# Altium footprint library Capacitor_Tantalum_SMD.PcbLib: 28 footprints (part 2 of 2)
Each footprint in its own frame and in the unit in brackets; x right, y up, seen from the top. Pads: shape width x height; smd on the part's side, far side on the other; paste and mask are expansions set on the pad; w line width, h text height; cw(c..) or ccw(c..) is an arc to the next point about the centre after c.
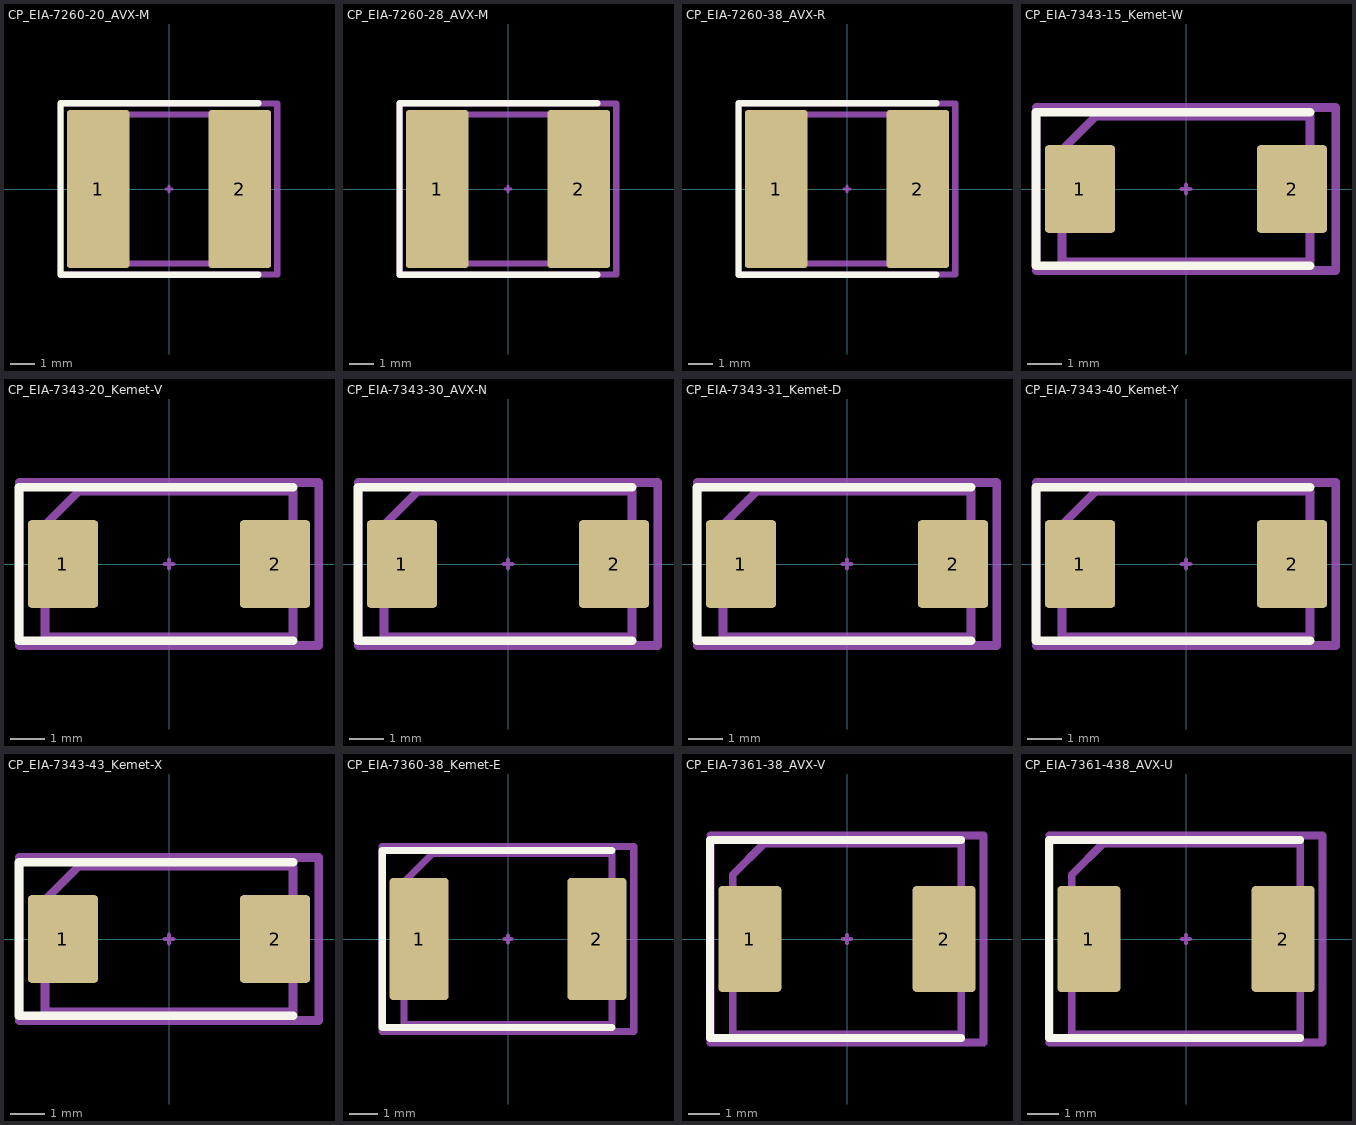
[diagram p1: the footprints below, top view; thin cyan lines are the x and y axes]

## CP_EIA-7260-20_AVX-M [mm] "CP_EIA-7260-20_AVX-M"
pads (2):
  rrect10% 2.51x6.37 smd: 1(-2.85,0) 2(2.85,0)
F.SilkS:
  lines w0.254: 3.6,-3.445 -4.365,-3.445 -4.365,3.445 3.6,3.445
Top Component Center:
  lines w0.127: -0.127,0 0.127,0 ; 0,-0.127 0,0.127
Top Assembly:
  lines w0.254: -3.6,-3 -3.6,2 -2.6,3 3.6,3 3.6,-3 -3.6,-3
Top Courtyard:
  lines w0.254: -4.36,-3.44 -4.36,3.44 4.36,3.44 4.36,-3.44 -4.36,-3.44
Top Designator:
  text ".Designator" at -3.434,-0.345 h1.52

## CP_EIA-7260-28_AVX-M [mm] "CP_EIA-7260-28_AVX-M"
pads (2):
  rrect10% 2.51x6.37 smd: 1(-2.85,0) 2(2.85,0)
F.SilkS:
  lines w0.254: 3.6,-3.445 -4.365,-3.445 -4.365,3.445 3.6,3.445
Top Component Center:
  lines w0.127: -0.127,0 0.127,0 ; 0,-0.127 0,0.127
Top Assembly:
  lines w0.254: -3.6,-3 3.6,-3 3.6,3 -2.6,3 -3.6,2 -3.6,-3
Top Courtyard:
  lines w0.254: -4.36,-3.44 4.36,-3.44 4.36,3.44 -4.36,3.44 -4.36,-3.44
Top Designator:
  text ".Designator" at -3.434,-0.345 h1.52

## CP_EIA-7260-38_AVX-R [mm] "CP_EIA-7260-38_AVX-R"
pads (2):
  rrect10% 2.51x6.37 smd: 1(-2.85,0) 2(2.85,0)
F.SilkS:
  lines w0.254: 3.6,-3.445 -4.365,-3.445 -4.365,3.445 3.6,3.445
Top Component Center:
  lines w0.127: -0.127,0 0.127,0 ; 0,-0.127 0,0.127
Top Assembly:
  lines w0.254: -3.6,-3 3.6,-3 3.6,3 -2.6,3 -3.6,2 -3.6,-3
Top Courtyard:
  lines w0.254: -4.36,-3.44 4.36,-3.44 4.36,3.44 -4.36,3.44 -4.36,-3.44
Top Designator:
  text ".Designator" at -3.434,-0.345 h1.52

## CP_EIA-7343-15_Kemet-W [mm] "CP_EIA-7343-15_Kemet-W"
pads (2):
  rrect12% 2.07x2.59 smd: 1(-3.12,0) 2(3.12,0)
F.SilkS:
  lines w0.254: 3.65,-2.26 -4.415,-2.26 -4.415,2.26 3.65,2.26
Top Component Center:
  lines w0.127: -0.127,0 0.127,0 ; 0,-0.127 0,0.127
Top Assembly:
  lines w0.254: -3.65,-2.15 3.65,-2.15 3.65,2.15 -2.65,2.15 -3.65,1.15 -3.65,-2.15
Top Courtyard:
  lines w0.254: -4.41,-2.4 4.41,-2.4 4.41,2.4 -4.41,2.4 -4.41,-2.4
Top Designator:
  text ".Designator" at -3.434,-0.345 h1.52
3D body "CP_EIA-7343-15_Kemet-W.step": height 1.5, standoff 0, extent -3.65,-2.15 3.65,2.15

## CP_EIA-7343-20_Kemet-V [mm] "CP_EIA-7343-20_Kemet-V"
pads (2):
  rrect12% 2.07x2.59 smd: 1(-3.12,0) 2(3.12,0)
F.SilkS:
  lines w0.254: 3.65,-2.26 -4.415,-2.26 -4.415,2.26 3.65,2.26
Top Component Center:
  lines w0.127: -0.127,0 0.127,0 ; 0,-0.127 0,0.127
Top Assembly:
  lines w0.254: -3.65,-2.15 -3.65,1.15 -2.65,2.15 3.65,2.15 3.65,-2.15 -3.65,-2.15
Top Courtyard:
  lines w0.254: -4.41,-2.4 -4.41,2.4 4.41,2.4 4.41,-2.4 -4.41,-2.4
Top Designator:
  text ".Designator" at -3.434,-0.345 h1.52
3D body "CP_EIA-7343-20_Kemet-V.step": height 2, standoff 0, extent -3.75,-2.3 3.75,2.3

## CP_EIA-7343-30_AVX-N [mm] "CP_EIA-7343-30_AVX-N"
pads (2):
  rrect12% 2.07x2.59 smd: 1(-3.12,0) 2(3.12,0)
F.SilkS:
  lines w0.254: 3.65,-2.26 -4.415,-2.26 -4.415,2.26 3.65,2.26
Top Component Center:
  lines w0.127: -0.127,0 0.127,0 ; 0,-0.127 0,0.127
Top Assembly:
  lines w0.254: -3.65,-2.15 -3.65,1.15 -2.65,2.15 3.65,2.15 3.65,-2.15 -3.65,-2.15
Top Courtyard:
  lines w0.254: -4.41,-2.4 -4.41,2.4 4.41,2.4 4.41,-2.4 -4.41,-2.4
Top Designator:
  text ".Designator" at -3.434,-0.345 h1.52
3D body "CP_EIA-7343-30_AVX-N.step": height 2.8, standoff 0, extent -3.65,-2.15 3.65,2.15

## CP_EIA-7343-31_Kemet-D [mm] "CP_EIA-7343-31_Kemet-D"
pads (2):
  rrect12% 2.07x2.59 smd: 1(-3.12,0) 2(3.12,0)
F.SilkS:
  lines w0.254: 3.65,-2.26 -4.415,-2.26 -4.415,2.26 3.65,2.26
Top Component Center:
  lines w0.127: -0.127,0 0.127,0 ; 0,-0.127 0,0.127
Top Assembly:
  lines w0.254: -3.65,-2.15 3.65,-2.15 3.65,2.15 -2.65,2.15 -3.65,1.15 -3.65,-2.15
Top Courtyard:
  lines w0.254: -4.41,-2.4 4.41,-2.4 4.41,2.4 -4.41,2.4 -4.41,-2.4
Top Designator:
  text ".Designator" at -3.434,-0.345 h1.52
3D body "CP_EIA-7343-31_Kemet-D.step": height 3.1, standoff 0, extent -3.65,-2.15 3.65,2.15

## CP_EIA-7343-40_Kemet-Y [mm] "CP_EIA-7343-40_Kemet-Y"
pads (2):
  rrect12% 2.07x2.59 smd: 1(-3.12,0) 2(3.12,0)
F.SilkS:
  lines w0.254: 3.65,-2.26 -4.415,-2.26 -4.415,2.26 3.65,2.26
Top Component Center:
  lines w0.127: -0.127,0 0.127,0 ; 0,-0.127 0,0.127
Top Assembly:
  lines w0.254: -3.65,-2.15 -3.65,1.15 -2.65,2.15 3.65,2.15 3.65,-2.15 -3.65,-2.15
Top Courtyard:
  lines w0.254: -4.41,-2.4 -4.41,2.4 4.41,2.4 4.41,-2.4 -4.41,-2.4
Top Designator:
  text ".Designator" at -3.434,-0.345 h1.52
3D body "CP_EIA-7343-40_Kemet-Y.step": height 3.8, standoff 0, extent -3.65,-2.15 3.65,2.15

## CP_EIA-7343-43_Kemet-X [mm] "CP_EIA-7343-43_Kemet-X"
pads (2):
  rrect12% 2.07x2.59 smd: 1(-3.12,0) 2(3.12,0)
F.SilkS:
  lines w0.254: 3.65,-2.26 -4.415,-2.26 -4.415,2.26 3.65,2.26
Top Component Center:
  lines w0.127: -0.127,0 0.127,0 ; 0,-0.127 0,0.127
Top Assembly:
  lines w0.254: -3.65,-2.15 3.65,-2.15 3.65,2.15 -2.65,2.15 -3.65,1.15 -3.65,-2.15
Top Courtyard:
  lines w0.254: -4.41,-2.4 4.41,-2.4 4.41,2.4 -4.41,2.4 -4.41,-2.4
Top Designator:
  text ".Designator" at -3.434,-0.345 h1.52
3D body "CP_EIA-7343-30_AVX-N.step": height 2.8, standoff 0, extent -3.65,-2.15 3.65,2.15

## CP_EIA-7360-38_Kemet-E [mm] "CP_EIA-7360-38_Kemet-E"
pads (2):
  rrect12% 2.07x4.29 smd: 1(-3.12,0) 2(3.12,0)
F.SilkS:
  lines w0.254: 3.65,-3.11 -4.415,-3.11 -4.415,3.11 3.65,3.11
Top Component Center:
  lines w0.127: -0.127,0 0.127,0 ; 0,-0.127 0,0.127
Top Assembly:
  lines w0.254: -3.65,-3 -3.65,2 -2.65,3 3.65,3 3.65,-3 -3.65,-3
Top Courtyard:
  lines w0.254: -4.41,-3.25 -4.41,3.25 4.41,3.25 4.41,-3.25 -4.41,-3.25
Top Designator:
  text ".Designator" at -3.437,-0.345 h1.52
3D body "CP_EIA-7360-38_Kemet-E.step": height 3.8, standoff 0, extent -3.8,-3.15 3.8,3.15

## CP_EIA-7361-38_AVX-V [mm] "CP_EIA-7361-38_AVX-V"
pads (2):
  rrect12% 2.015x3.38 smd: 1(-3.103,0) 2(3.103,0)
F.SilkS:
  lines w0.254: 3.65,-3.16 -4.37,-3.16 -4.37,3.16 3.65,3.16
Top Component Center:
  lines w0.127: -0.127,0 0.127,0 ; 0,-0.127 0,0.127
Top Assembly:
  lines w0.254: -3.65,-3.05 -3.65,2.05 -2.65,3.05 3.65,3.05 3.65,-3.05 -3.65,-3.05
Top Courtyard:
  lines w0.254: -4.36,-3.3 -4.36,3.3 4.36,3.3 4.36,-3.3 -4.36,-3.3
Top Designator:
  text ".Designator" at -3.434,-0.345 h1.52
3D body "CP_EIA-7361-38_AVX-V.step": height 3.55, standoff 0, extent -3.65,-3.05 3.65,3.05

## CP_EIA-7361-438_AVX-U [mm] "CP_EIA-7361-438_AVX-U"
pads (2):
  rrect12% 2.015x3.38 smd: 1(-3.103,0) 2(3.103,0)
F.SilkS:
  lines w0.254: 3.65,-3.16 -4.37,-3.16 -4.37,3.16 3.65,3.16
Top Component Center:
  lines w0.127: -0.127,0 0.127,0 ; 0,-0.127 0,0.127
Top Assembly:
  lines w0.254: -3.65,-3.05 -3.65,2.05 -2.65,3.05 3.65,3.05 3.65,-3.05 -3.65,-3.05
Top Courtyard:
  lines w0.254: -4.36,-3.3 -4.36,3.3 4.36,3.3 4.36,-3.3 -4.36,-3.3
Top Designator:
  text ".Designator" at -3.439,-0.345 h1.52
3D body "CP_EIA-7361-438_AVX-U.step": height 4.1, standoff 0, extent -3.65,-3.05 3.65,3.05
3D body "CP_EIA-7361-438_AVX-U.step": height 4.1, standoff 0, extent -3.65,-3.05 3.65,3.05